# EAGLE library part MC100LVEL51 (library fcounter)
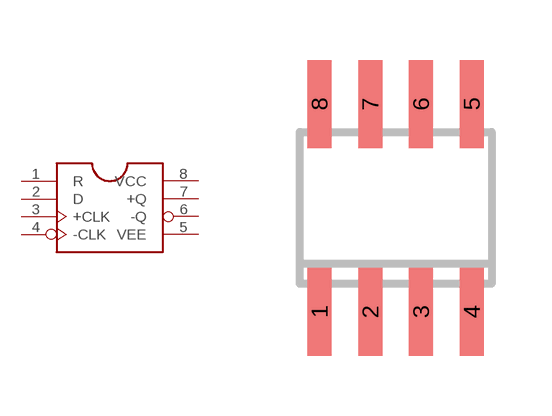
[diagram p1: symbol with the pads of SOP08; footprint SOP08]

Designator prefix IC

## MC100LVEL51  [SOP08]
1  R  in
2  D  in
3  +CLK  in
4  -CLK  in
5  VEE  pwr
6  -Q  out
7  +Q  out
8  VCC  pwr

## Footprint SOP08 (pad centres in mm)
smd 0.6 x 2.2: 1 -1.905,-2.6; 2 -0.635,-2.6; 3 0.635,-2.6; 4 1.905,-2.6; 5 1.905,2.6; 6 0.635,2.6; 7 -0.635,2.6; 8 -1.905,2.6